# Altium footprint library IPC-7355 QFP_Shrink_Sq_50P_Side_L.PcbLib: 26 footprints (part 2 of 3)
Each footprint in its own frame and in the unit in brackets; x right, y up, seen from the top. Pads: shape width x height; smd on the part's side, far side on the other; paste and mask are expansions set on the pad; w line width, h text height; cw(c..) or ccw(c..) is an arc to the next point about the centre after c.
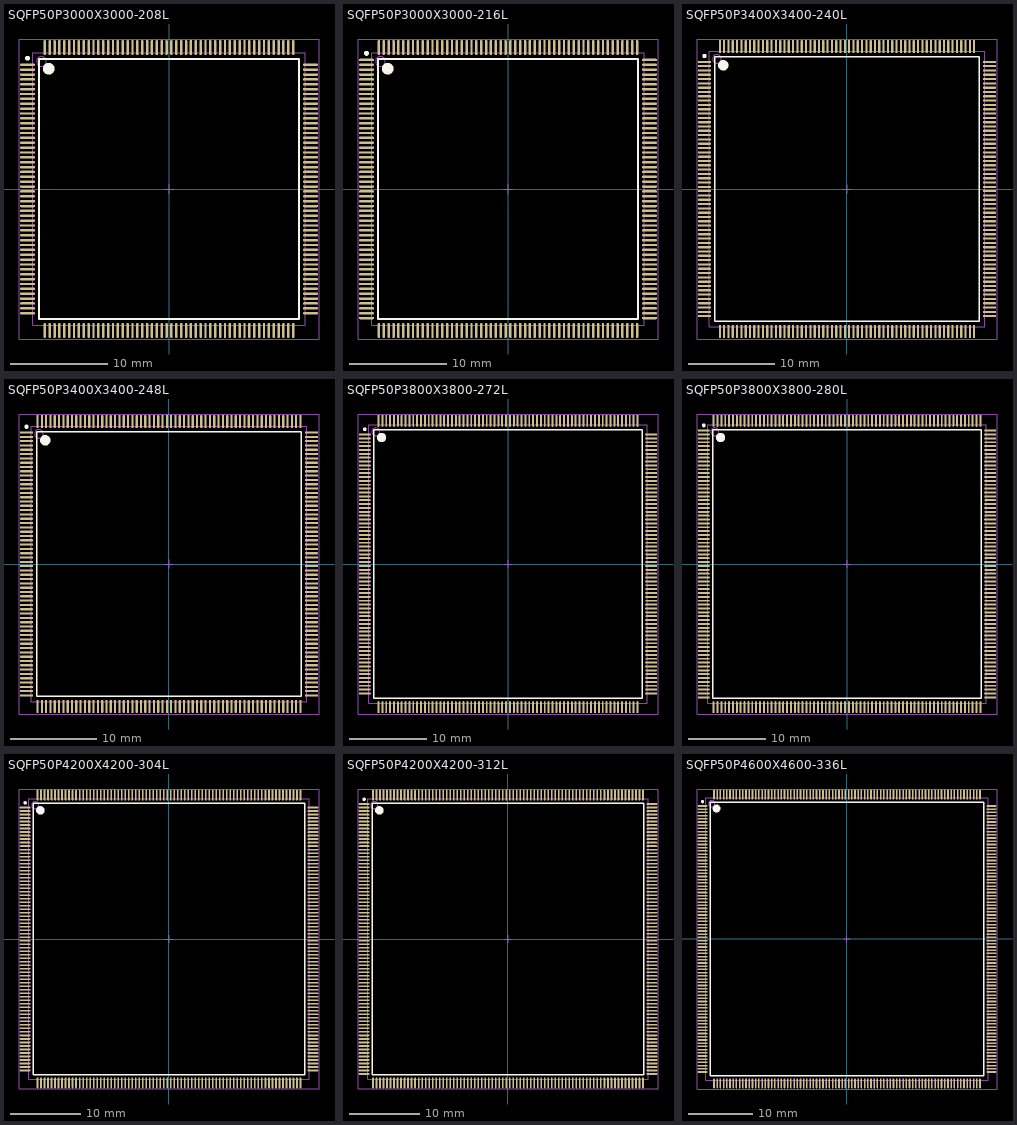
[diagram p1: the footprints below, top view; thin cyan lines are the x and y axes]

## SQFP50P3000X3000-208L [mm] "Shrink QFP, 208-Leads, Body 28x28mm, Pitch 0.5mm, IPC High Density"
height 3.75
pads (208):
  oval 1.55x0.25 smd: 1(-14.525,12.75) 2(-14.525,12.25) 3(-14.525,11.75) 4(-14.525,11.25) 5(-14.525,10.75) 6(-14.525,10.25) 7(-14.525,9.75) 8(-14.525,9.25) 9(-14.525,8.75) 10(-14.525,8.25) 11(-14.525,7.75) 12(-14.525,7.25) 13(-14.525,6.75) 14(-14.525,6.25) 15(-14.525,5.75) 16(-14.525,5.25) 17(-14.525,4.75) 18(-14.525,4.25) 19(-14.525,3.75) 20(-14.525,3.25) 21(-14.525,2.75) 22(-14.525,2.25) 23(-14.525,1.75) 24(-14.525,1.25) 25(-14.525,0.75) 26(-14.525,0.25) 27(-14.525,-0.25) 28(-14.525,-0.75) 29(-14.525,-1.25) 30(-14.525,-1.75) 31(-14.525,-2.25) 32(-14.525,-2.75) 33(-14.525,-3.25) 34(-14.525,-3.75) 35(-14.525,-4.25) 36(-14.525,-4.75) 37(-14.525,-5.25) 38(-14.525,-5.75) 39(-14.525,-6.25) 40(-14.525,-6.75) 41(-14.525,-7.25) 42(-14.525,-7.75) 43(-14.525,-8.25) 44(-14.525,-8.75) 45(-14.525,-9.25) 46(-14.525,-9.75) 47(-14.525,-10.25) 48(-14.525,-10.75) 49(-14.525,-11.25) 50(-14.525,-11.75) 51(-14.525,-12.25) 52(-14.525,-12.75) 105(14.525,-12.75) 106(14.525,-12.25) 107(14.525,-11.75) 108(14.525,-11.25) 109(14.525,-10.75) 110(14.525,-10.25) 111(14.525,-9.75) 112(14.525,-9.25) 113(14.525,-8.75) 114(14.525,-8.25) 115(14.525,-7.75) 116(14.525,-7.25) 117(14.525,-6.75) 118(14.525,-6.25) 119(14.525,-5.75) 120(14.525,-5.25) 121(14.525,-4.75) 122(14.525,-4.25) 123(14.525,-3.75) 124(14.525,-3.25) 125(14.525,-2.75) 126(14.525,-2.25) 127(14.525,-1.75) 128(14.525,-1.25) 129(14.525,-0.75) 130(14.525,-0.25) 131(14.525,0.25) 132(14.525,0.75) 133(14.525,1.25) 134(14.525,1.75) 135(14.525,2.25) 136(14.525,2.75) 137(14.525,3.25) 138(14.525,3.75) 139(14.525,4.25) 140(14.525,4.75) 141(14.525,5.25) 142(14.525,5.75) 143(14.525,6.25) 144(14.525,6.75) 145(14.525,7.25) 146(14.525,7.75) 147(14.525,8.25) 148(14.525,8.75) 149(14.525,9.25) 150(14.525,9.75) 151(14.525,10.25) 152(14.525,10.75) 153(14.525,11.25) 154(14.525,11.75) 155(14.525,12.25) 156(14.525,12.75)
  oval 0.25x1.55 smd: 53(-12.75,-14.525) 54(-12.25,-14.525) 55(-11.75,-14.525) 56(-11.25,-14.525) 57(-10.75,-14.525) 58(-10.25,-14.525) 59(-9.75,-14.525) 60(-9.25,-14.525) 61(-8.75,-14.525) 62(-8.25,-14.525) 63(-7.75,-14.525) 64(-7.25,-14.525) 65(-6.75,-14.525) 66(-6.25,-14.525) 67(-5.75,-14.525) 68(-5.25,-14.525) 69(-4.75,-14.525) 70(-4.25,-14.525) 71(-3.75,-14.525) 72(-3.25,-14.525) 73(-2.75,-14.525) 74(-2.25,-14.525) 75(-1.75,-14.525) 76(-1.25,-14.525) 77(-0.75,-14.525) 78(-0.25,-14.525) 79(0.25,-14.525) 80(0.75,-14.525) 81(1.25,-14.525) 82(1.75,-14.525) 83(2.25,-14.525) 84(2.75,-14.525) 85(3.25,-14.525) 86(3.75,-14.525) 87(4.25,-14.525) 88(4.75,-14.525) 89(5.25,-14.525) 90(5.75,-14.525) 91(6.25,-14.525) 92(6.75,-14.525) 93(7.25,-14.525) 94(7.75,-14.525) 95(8.25,-14.525) 96(8.75,-14.525) 97(9.25,-14.525) 98(9.75,-14.525) 99(10.25,-14.525) 100(10.75,-14.525) 101(11.25,-14.525) 102(11.75,-14.525) 103(12.25,-14.525) 104(12.75,-14.525) 157(12.75,14.525) 158(12.25,14.525) 159(11.75,14.525) 160(11.25,14.525) 161(10.75,14.525) 162(10.25,14.525) 163(9.75,14.525) 164(9.25,14.525) 165(8.75,14.525) 166(8.25,14.525) 167(7.75,14.525) 168(7.25,14.525) 169(6.75,14.525) 170(6.25,14.525) 171(5.75,14.525) 172(5.25,14.525) 173(4.75,14.525) 174(4.25,14.525) 175(3.75,14.525) 176(3.25,14.525) 177(2.75,14.525) 178(2.25,14.525) 179(1.75,14.525) 180(1.25,14.525) 181(0.75,14.525) 182(0.25,14.525) 183(-0.25,14.525) 184(-0.75,14.525) 185(-1.25,14.525) 186(-1.75,14.525) 187(-2.25,14.525) 188(-2.75,14.525) 189(-3.25,14.525) 190(-3.75,14.525) 191(-4.25,14.525) 192(-4.75,14.525) 193(-5.25,14.525) 194(-5.75,14.525) 195(-6.25,14.525) 196(-6.75,14.525) 197(-7.25,14.525) 198(-7.75,14.525) 199(-8.25,14.525) 200(-8.75,14.525) 201(-9.25,14.525) 202(-9.75,14.525) 203(-10.25,14.525) 204(-10.75,14.525) 205(-11.25,14.525) 206(-11.75,14.525) 207(-12.25,14.525) 208(-12.75,14.525)
Top Overlay:
  circle w0.6: c-12.35,12.35 r0.3
  circle w0.25: c-14.525,13.425 r0.125
  lines w0.2: -13.35,-13.35 13.35,-13.35 13.35,13.35 -13.35,13.35 -13.35,-13.35
Mechanical 13:
  circle w0.1: c-13.1,13.1 r0.5
  lines w0.1: -14,-14 14,-14 14,14 -14,14 -14,-14
Mechanical 15:
  lines w0.1: -0.5,0 0.5,0 ; 0,-0.5 0,0.5 ; -15.4,-15.4 15.4,-15.4 15.4,15.4 -15.4,15.4 -15.4,-15.4
3D body: height 3.75, standoff 0, extent -14,-14 14,14

## SQFP50P3000X3000-216L [mm] "Shrink QFP, 216-Leads, Body 28x28mm, Pitch 0.5mm, IPC High Density"
height 3.75
pads (216):
  oval 1.55x0.25 smd: 1(-14.525,13.25) 2(-14.525,12.75) 3(-14.525,12.25) 4(-14.525,11.75) 5(-14.525,11.25) 6(-14.525,10.75) 7(-14.525,10.25) 8(-14.525,9.75) 9(-14.525,9.25) 10(-14.525,8.75) 11(-14.525,8.25) 12(-14.525,7.75) 13(-14.525,7.25) 14(-14.525,6.75) 15(-14.525,6.25) 16(-14.525,5.75) 17(-14.525,5.25) 18(-14.525,4.75) 19(-14.525,4.25) 20(-14.525,3.75) 21(-14.525,3.25) 22(-14.525,2.75) 23(-14.525,2.25) 24(-14.525,1.75) 25(-14.525,1.25) 26(-14.525,0.75) 27(-14.525,0.25) 28(-14.525,-0.25) 29(-14.525,-0.75) 30(-14.525,-1.25) 31(-14.525,-1.75) 32(-14.525,-2.25) 33(-14.525,-2.75) 34(-14.525,-3.25) 35(-14.525,-3.75) 36(-14.525,-4.25) 37(-14.525,-4.75) 38(-14.525,-5.25) 39(-14.525,-5.75) 40(-14.525,-6.25) 41(-14.525,-6.75) 42(-14.525,-7.25) 43(-14.525,-7.75) 44(-14.525,-8.25) 45(-14.525,-8.75) 46(-14.525,-9.25) 47(-14.525,-9.75) 48(-14.525,-10.25) 49(-14.525,-10.75) 50(-14.525,-11.25) 51(-14.525,-11.75) 52(-14.525,-12.25) 53(-14.525,-12.75) 54(-14.525,-13.25) 109(14.525,-13.25) 110(14.525,-12.75) 111(14.525,-12.25) 112(14.525,-11.75) 113(14.525,-11.25) 114(14.525,-10.75) 115(14.525,-10.25) 116(14.525,-9.75) 117(14.525,-9.25) 118(14.525,-8.75) 119(14.525,-8.25) 120(14.525,-7.75) 121(14.525,-7.25) 122(14.525,-6.75) 123(14.525,-6.25) 124(14.525,-5.75) 125(14.525,-5.25) 126(14.525,-4.75) 127(14.525,-4.25) 128(14.525,-3.75) 129(14.525,-3.25) 130(14.525,-2.75) 131(14.525,-2.25) 132(14.525,-1.75) 133(14.525,-1.25) 134(14.525,-0.75) 135(14.525,-0.25) 136(14.525,0.25) 137(14.525,0.75) 138(14.525,1.25) 139(14.525,1.75) 140(14.525,2.25) 141(14.525,2.75) 142(14.525,3.25) 143(14.525,3.75) 144(14.525,4.25) 145(14.525,4.75) 146(14.525,5.25) 147(14.525,5.75) 148(14.525,6.25) 149(14.525,6.75) 150(14.525,7.25) 151(14.525,7.75) 152(14.525,8.25) 153(14.525,8.75) 154(14.525,9.25) 155(14.525,9.75) 156(14.525,10.25) 157(14.525,10.75) 158(14.525,11.25) 159(14.525,11.75) 160(14.525,12.25) 161(14.525,12.75) 162(14.525,13.25)
  oval 0.25x1.55 smd: 55(-13.25,-14.525) 56(-12.75,-14.525) 57(-12.25,-14.525) 58(-11.75,-14.525) 59(-11.25,-14.525) 60(-10.75,-14.525) 61(-10.25,-14.525) 62(-9.75,-14.525) 63(-9.25,-14.525) 64(-8.75,-14.525) 65(-8.25,-14.525) 66(-7.75,-14.525) 67(-7.25,-14.525) 68(-6.75,-14.525) 69(-6.25,-14.525) 70(-5.75,-14.525) 71(-5.25,-14.525) 72(-4.75,-14.525) 73(-4.25,-14.525) 74(-3.75,-14.525) 75(-3.25,-14.525) 76(-2.75,-14.525) 77(-2.25,-14.525) 78(-1.75,-14.525) 79(-1.25,-14.525) 80(-0.75,-14.525) 81(-0.25,-14.525) 82(0.25,-14.525) 83(0.75,-14.525) 84(1.25,-14.525) 85(1.75,-14.525) 86(2.25,-14.525) 87(2.75,-14.525) 88(3.25,-14.525) 89(3.75,-14.525) 90(4.25,-14.525) 91(4.75,-14.525) 92(5.25,-14.525) 93(5.75,-14.525) 94(6.25,-14.525) 95(6.75,-14.525) 96(7.25,-14.525) 97(7.75,-14.525) 98(8.25,-14.525) 99(8.75,-14.525) 100(9.25,-14.525) 101(9.75,-14.525) 102(10.25,-14.525) 103(10.75,-14.525) 104(11.25,-14.525) 105(11.75,-14.525) 106(12.25,-14.525) 107(12.75,-14.525) 108(13.25,-14.525) 163(13.25,14.525) 164(12.75,14.525) 165(12.25,14.525) 166(11.75,14.525) 167(11.25,14.525) 168(10.75,14.525) 169(10.25,14.525) 170(9.75,14.525) 171(9.25,14.525) 172(8.75,14.525) 173(8.25,14.525) 174(7.75,14.525) 175(7.25,14.525) 176(6.75,14.525) 177(6.25,14.525) 178(5.75,14.525) 179(5.25,14.525) 180(4.75,14.525) 181(4.25,14.525) 182(3.75,14.525) 183(3.25,14.525) 184(2.75,14.525) 185(2.25,14.525) 186(1.75,14.525) 187(1.25,14.525) 188(0.75,14.525) 189(0.25,14.525) 190(-0.25,14.525) 191(-0.75,14.525) 192(-1.25,14.525) 193(-1.75,14.525) 194(-2.25,14.525) 195(-2.75,14.525) 196(-3.25,14.525) 197(-3.75,14.525) 198(-4.25,14.525) 199(-4.75,14.525) 200(-5.25,14.525) 201(-5.75,14.525) 202(-6.25,14.525) 203(-6.75,14.525) 204(-7.25,14.525) 205(-7.75,14.525) 206(-8.25,14.525) 207(-8.75,14.525) 208(-9.25,14.525) 209(-9.75,14.525) 210(-10.25,14.525) 211(-10.75,14.525) 212(-11.25,14.525) 213(-11.75,14.525) 214(-12.25,14.525) 215(-12.75,14.525) 216(-13.25,14.525)
Top Overlay:
  circle w0.25: c-14.525,13.925 r0.125
  circle w0.6: c-12.35,12.35 r0.3
  lines w0.2: -13.35,-13.35 -13.35,13.35 13.35,13.35 13.35,-13.35 -13.35,-13.35
Mechanical 13:
  circle w0.1: c-13.1,13.1 r0.5
  lines w0.1: -14,-14 -14,14 14,14 14,-14 -14,-14
Mechanical 15:
  lines w0.1: -0.5,0 0.5,0 ; 0,-0.5 0,0.5 ; -15.4,-15.4 -15.4,15.4 15.4,15.4 15.4,-15.4 -15.4,-15.4
3D body: height 3.75, standoff 0, extent -14,-14 14,14

## SQFP50P3400X3400-240L [mm] "Shrink QFP, 240-Leads, Body 32x32mm, Pitch 0.5mm, IPC High Density"
height 4.2
pads (240):
  oval 1.55x0.25 smd: 1(-16.525,14.75) 2(-16.525,14.25) 3(-16.525,13.75) 4(-16.525,13.25) 5(-16.525,12.75) 6(-16.525,12.25) 7(-16.525,11.75) 8(-16.525,11.25) 9(-16.525,10.75) 10(-16.525,10.25) 11(-16.525,9.75) 12(-16.525,9.25) 13(-16.525,8.75) 14(-16.525,8.25) 15(-16.525,7.75) 16(-16.525,7.25) 17(-16.525,6.75) 18(-16.525,6.25) 19(-16.525,5.75) 20(-16.525,5.25) 21(-16.525,4.75) 22(-16.525,4.25) 23(-16.525,3.75) 24(-16.525,3.25) 25(-16.525,2.75) 26(-16.525,2.25) 27(-16.525,1.75) 28(-16.525,1.25) 29(-16.525,0.75) 30(-16.525,0.25) 31(-16.525,-0.25) 32(-16.525,-0.75) 33(-16.525,-1.25) 34(-16.525,-1.75) 35(-16.525,-2.25) 36(-16.525,-2.75) 37(-16.525,-3.25) 38(-16.525,-3.75) 39(-16.525,-4.25) 40(-16.525,-4.75) 41(-16.525,-5.25) 42(-16.525,-5.75) 43(-16.525,-6.25) 44(-16.525,-6.75) 45(-16.525,-7.25) 46(-16.525,-7.75) 47(-16.525,-8.25) 48(-16.525,-8.75) 49(-16.525,-9.25) 50(-16.525,-9.75) 51(-16.525,-10.25) 52(-16.525,-10.75) 53(-16.525,-11.25) 54(-16.525,-11.75) 55(-16.525,-12.25) 56(-16.525,-12.75) 57(-16.525,-13.25) 58(-16.525,-13.75) 59(-16.525,-14.25) 60(-16.525,-14.75) 121(16.525,-14.75) 122(16.525,-14.25) 123(16.525,-13.75) 124(16.525,-13.25) 125(16.525,-12.75) 126(16.525,-12.25) 127(16.525,-11.75) 128(16.525,-11.25) 129(16.525,-10.75) 130(16.525,-10.25) 131(16.525,-9.75) 132(16.525,-9.25) 133(16.525,-8.75) 134(16.525,-8.25) 135(16.525,-7.75) 136(16.525,-7.25) 137(16.525,-6.75) 138(16.525,-6.25) 139(16.525,-5.75) 140(16.525,-5.25) 141(16.525,-4.75) 142(16.525,-4.25) 143(16.525,-3.75) 144(16.525,-3.25) 145(16.525,-2.75) 146(16.525,-2.25) 147(16.525,-1.75) 148(16.525,-1.25) 149(16.525,-0.75) 150(16.525,-0.25) 151(16.525,0.25) 152(16.525,0.75) 153(16.525,1.25) 154(16.525,1.75) 155(16.525,2.25) 156(16.525,2.75) 157(16.525,3.25) 158(16.525,3.75) 159(16.525,4.25) 160(16.525,4.75) 161(16.525,5.25) 162(16.525,5.75) 163(16.525,6.25) 164(16.525,6.75) 165(16.525,7.25) 166(16.525,7.75) 167(16.525,8.25) 168(16.525,8.75) 169(16.525,9.25) 170(16.525,9.75) 171(16.525,10.25) 172(16.525,10.75) 173(16.525,11.25) 174(16.525,11.75) 175(16.525,12.25) 176(16.525,12.75) 177(16.525,13.25) 178(16.525,13.75) 179(16.525,14.25) 180(16.525,14.75)
  oval 0.25x1.55 smd: 61(-14.75,-16.525) 62(-14.25,-16.525) 63(-13.75,-16.525) 64(-13.25,-16.525) 65(-12.75,-16.525) 66(-12.25,-16.525) 67(-11.75,-16.525) 68(-11.25,-16.525) 69(-10.75,-16.525) 70(-10.25,-16.525) 71(-9.75,-16.525) 72(-9.25,-16.525) 73(-8.75,-16.525) 74(-8.25,-16.525) 75(-7.75,-16.525) 76(-7.25,-16.525) 77(-6.75,-16.525) 78(-6.25,-16.525) 79(-5.75,-16.525) 80(-5.25,-16.525) 81(-4.75,-16.525) 82(-4.25,-16.525) 83(-3.75,-16.525) 84(-3.25,-16.525) 85(-2.75,-16.525) 86(-2.25,-16.525) 87(-1.75,-16.525) 88(-1.25,-16.525) 89(-0.75,-16.525) 90(-0.25,-16.525) 91(0.25,-16.525) 92(0.75,-16.525) 93(1.25,-16.525) 94(1.75,-16.525) 95(2.25,-16.525) 96(2.75,-16.525) 97(3.25,-16.525) 98(3.75,-16.525) 99(4.25,-16.525) 100(4.75,-16.525) 101(5.25,-16.525) 102(5.75,-16.525) 103(6.25,-16.525) 104(6.75,-16.525) 105(7.25,-16.525) 106(7.75,-16.525) 107(8.25,-16.525) 108(8.75,-16.525) 109(9.25,-16.525) 110(9.75,-16.525) 111(10.25,-16.525) 112(10.75,-16.525) 113(11.25,-16.525) 114(11.75,-16.525) 115(12.25,-16.525) 116(12.75,-16.525) 117(13.25,-16.525) 118(13.75,-16.525) 119(14.25,-16.525) 120(14.75,-16.525) 181(14.75,16.525) 182(14.25,16.525) 183(13.75,16.525) 184(13.25,16.525) 185(12.75,16.525) 186(12.25,16.525) 187(11.75,16.525) 188(11.25,16.525) 189(10.75,16.525) 190(10.25,16.525) 191(9.75,16.525) 192(9.25,16.525) 193(8.75,16.525) 194(8.25,16.525) 195(7.75,16.525) 196(7.25,16.525) 197(6.75,16.525) 198(6.25,16.525) 199(5.75,16.525) 200(5.25,16.525) 201(4.75,16.525) 202(4.25,16.525) 203(3.75,16.525) 204(3.25,16.525) 205(2.75,16.525) 206(2.25,16.525) 207(1.75,16.525) 208(1.25,16.525) 209(0.75,16.525) 210(0.25,16.525) 211(-0.25,16.525) 212(-0.75,16.525) 213(-1.25,16.525) 214(-1.75,16.525) 215(-2.25,16.525) 216(-2.75,16.525) 217(-3.25,16.525) 218(-3.75,16.525) 219(-4.25,16.525) 220(-4.75,16.525) 221(-5.25,16.525) 222(-5.75,16.525) 223(-6.25,16.525) 224(-6.75,16.525) 225(-7.25,16.525) 226(-7.75,16.525) 227(-8.25,16.525) 228(-8.75,16.525) 229(-9.25,16.525) 230(-9.75,16.525) 231(-10.25,16.525) 232(-10.75,16.525) 233(-11.25,16.525) 234(-11.75,16.525) 235(-12.25,16.525) 236(-12.75,16.525) 237(-13.25,16.525) 238(-13.75,16.525) 239(-14.25,16.525) 240(-14.75,16.525)
Top Overlay:
  circle w0.6: c-14.35,14.35 r0.3
  circle w0.25: c-16.525,15.425 r0.125
  lines w0.2: -15.35,-15.35 15.35,-15.35 15.35,15.35 -15.35,15.35 -15.35,-15.35
Mechanical 13:
  circle w0.1: c-15.1,15.1 r0.5
  lines w0.1: -16,-16 16,-16 16,16 -16,16 -16,-16
Mechanical 15:
  lines w0.1: -0.5,0 0.5,0 ; 0,-0.5 0,0.5 ; -17.4,-17.4 17.4,-17.4 17.4,17.4 -17.4,17.4 -17.4,-17.4
3D body: height 4.2, standoff 0, extent -16,-16 16,16

## SQFP50P3400X3400-248L [mm] "Shrink QFP, 248-Leads, Body 32x32mm, Pitch 0.5mm, IPC High Density"
height 4.2
pads (248):
  oval 1.55x0.25 smd: 1(-16.525,15.25) 2(-16.525,14.75) 3(-16.525,14.25) 4(-16.525,13.75) 5(-16.525,13.25) 6(-16.525,12.75) 7(-16.525,12.25) 8(-16.525,11.75) 9(-16.525,11.25) 10(-16.525,10.75) 11(-16.525,10.25) 12(-16.525,9.75) 13(-16.525,9.25) 14(-16.525,8.75) 15(-16.525,8.25) 16(-16.525,7.75) 17(-16.525,7.25) 18(-16.525,6.75) 19(-16.525,6.25) 20(-16.525,5.75) 21(-16.525,5.25) 22(-16.525,4.75) 23(-16.525,4.25) 24(-16.525,3.75) 25(-16.525,3.25) 26(-16.525,2.75) 27(-16.525,2.25) 28(-16.525,1.75) 29(-16.525,1.25) 30(-16.525,0.75) 31(-16.525,0.25) 32(-16.525,-0.25) 33(-16.525,-0.75) 34(-16.525,-1.25) 35(-16.525,-1.75) 36(-16.525,-2.25) 37(-16.525,-2.75) 38(-16.525,-3.25) 39(-16.525,-3.75) 40(-16.525,-4.25) 41(-16.525,-4.75) 42(-16.525,-5.25) 43(-16.525,-5.75) 44(-16.525,-6.25) 45(-16.525,-6.75) 46(-16.525,-7.25) 47(-16.525,-7.75) 48(-16.525,-8.25) 49(-16.525,-8.75) 50(-16.525,-9.25) 51(-16.525,-9.75) 52(-16.525,-10.25) 53(-16.525,-10.75) 54(-16.525,-11.25) 55(-16.525,-11.75) 56(-16.525,-12.25) 57(-16.525,-12.75) 58(-16.525,-13.25) 59(-16.525,-13.75) 60(-16.525,-14.25) 61(-16.525,-14.75) 62(-16.525,-15.25) 125(16.525,-15.25) 126(16.525,-14.75) 127(16.525,-14.25) 128(16.525,-13.75) 129(16.525,-13.25) 130(16.525,-12.75) 131(16.525,-12.25) 132(16.525,-11.75) 133(16.525,-11.25) 134(16.525,-10.75) 135(16.525,-10.25) 136(16.525,-9.75) 137(16.525,-9.25) 138(16.525,-8.75) 139(16.525,-8.25) 140(16.525,-7.75) 141(16.525,-7.25) 142(16.525,-6.75) 143(16.525,-6.25) 144(16.525,-5.75) 145(16.525,-5.25) 146(16.525,-4.75) 147(16.525,-4.25) 148(16.525,-3.75) 149(16.525,-3.25) 150(16.525,-2.75) 151(16.525,-2.25) 152(16.525,-1.75) 153(16.525,-1.25) 154(16.525,-0.75) 155(16.525,-0.25) 156(16.525,0.25) 157(16.525,0.75) 158(16.525,1.25) 159(16.525,1.75) 160(16.525,2.25) 161(16.525,2.75) 162(16.525,3.25) 163(16.525,3.75) 164(16.525,4.25) 165(16.525,4.75) 166(16.525,5.25) 167(16.525,5.75) 168(16.525,6.25) 169(16.525,6.75) 170(16.525,7.25) 171(16.525,7.75) 172(16.525,8.25) 173(16.525,8.75) 174(16.525,9.25) 175(16.525,9.75) 176(16.525,10.25) 177(16.525,10.75) 178(16.525,11.25) 179(16.525,11.75) 180(16.525,12.25) 181(16.525,12.75) 182(16.525,13.25) 183(16.525,13.75) 184(16.525,14.25) 185(16.525,14.75) 186(16.525,15.25)
  oval 0.25x1.55 smd: 63(-15.25,-16.525) 64(-14.75,-16.525) 65(-14.25,-16.525) 66(-13.75,-16.525) 67(-13.25,-16.525) 68(-12.75,-16.525) 69(-12.25,-16.525) 70(-11.75,-16.525) 71(-11.25,-16.525) 72(-10.75,-16.525) 73(-10.25,-16.525) 74(-9.75,-16.525) 75(-9.25,-16.525) 76(-8.75,-16.525) 77(-8.25,-16.525) 78(-7.75,-16.525) 79(-7.25,-16.525) 80(-6.75,-16.525) 81(-6.25,-16.525) 82(-5.75,-16.525) 83(-5.25,-16.525) 84(-4.75,-16.525) 85(-4.25,-16.525) 86(-3.75,-16.525) 87(-3.25,-16.525) 88(-2.75,-16.525) 89(-2.25,-16.525) 90(-1.75,-16.525) 91(-1.25,-16.525) 92(-0.75,-16.525) 93(-0.25,-16.525) 94(0.25,-16.525) 95(0.75,-16.525) 96(1.25,-16.525) 97(1.75,-16.525) 98(2.25,-16.525) 99(2.75,-16.525) 100(3.25,-16.525) 101(3.75,-16.525) 102(4.25,-16.525) 103(4.75,-16.525) 104(5.25,-16.525) 105(5.75,-16.525) 106(6.25,-16.525) 107(6.75,-16.525) 108(7.25,-16.525) 109(7.75,-16.525) 110(8.25,-16.525) 111(8.75,-16.525) 112(9.25,-16.525) 113(9.75,-16.525) 114(10.25,-16.525) 115(10.75,-16.525) 116(11.25,-16.525) 117(11.75,-16.525) 118(12.25,-16.525) 119(12.75,-16.525) 120(13.25,-16.525) 121(13.75,-16.525) 122(14.25,-16.525) 123(14.75,-16.525) 124(15.25,-16.525) 187(15.25,16.525) 188(14.75,16.525) 189(14.25,16.525) 190(13.75,16.525) 191(13.25,16.525) 192(12.75,16.525) 193(12.25,16.525) 194(11.75,16.525) 195(11.25,16.525) 196(10.75,16.525) 197(10.25,16.525) 198(9.75,16.525) 199(9.25,16.525) 200(8.75,16.525) 201(8.25,16.525) 202(7.75,16.525) 203(7.25,16.525) 204(6.75,16.525) 205(6.25,16.525) 206(5.75,16.525) 207(5.25,16.525) 208(4.75,16.525) 209(4.25,16.525) 210(3.75,16.525) 211(3.25,16.525) 212(2.75,16.525) 213(2.25,16.525) 214(1.75,16.525) 215(1.25,16.525) 216(0.75,16.525) 217(0.25,16.525) 218(-0.25,16.525) 219(-0.75,16.525) 220(-1.25,16.525) 221(-1.75,16.525) 222(-2.25,16.525) 223(-2.75,16.525) 224(-3.25,16.525) 225(-3.75,16.525) 226(-4.25,16.525) 227(-4.75,16.525) 228(-5.25,16.525) 229(-5.75,16.525) 230(-6.25,16.525) 231(-6.75,16.525) 232(-7.25,16.525) 233(-7.75,16.525) 234(-8.25,16.525) 235(-8.75,16.525) 236(-9.25,16.525) 237(-9.75,16.525) 238(-10.25,16.525) 239(-10.75,16.525) 240(-11.25,16.525) 241(-11.75,16.525) 242(-12.25,16.525) 243(-12.75,16.525) 244(-13.25,16.525) 245(-13.75,16.525) 246(-14.25,16.525) 247(-14.75,16.525) 248(-15.25,16.525)
Top Overlay:
  circle w0.25: c-16.525,15.925 r0.125
  circle w0.6: c-14.35,14.35 r0.3
  lines w0.2: -15.35,-15.35 -15.35,15.35 15.35,15.35 15.35,-15.35 -15.35,-15.35
Mechanical 13:
  circle w0.1: c-15.1,15.1 r0.5
  lines w0.1: -16,-16 -16,16 16,16 16,-16 -16,-16
Mechanical 15:
  lines w0.1: -0.5,0 0.5,0 ; 0,-0.5 0,0.5 ; -17.4,-17.4 -17.4,17.4 17.4,17.4 17.4,-17.4 -17.4,-17.4
3D body: height 4.2, standoff 0, extent -16,-16 16,16

## SQFP50P3800X3800-272L [mm] "Shrink QFP, 272-Leads, Body 36x36mm, Pitch 0.5mm, IPC High Density"
height 4.2
pads (272):
  oval 1.55x0.25 smd: 1(-18.525,16.75) 2(-18.525,16.25) 3(-18.525,15.75) 4(-18.525,15.25) 5(-18.525,14.75) 6(-18.525,14.25) 7(-18.525,13.75) 8(-18.525,13.25) 9(-18.525,12.75) 10(-18.525,12.25) 11(-18.525,11.75) 12(-18.525,11.25) 13(-18.525,10.75) 14(-18.525,10.25) 15(-18.525,9.75) 16(-18.525,9.25) 17(-18.525,8.75) 18(-18.525,8.25) 19(-18.525,7.75) 20(-18.525,7.25) 21(-18.525,6.75) 22(-18.525,6.25) 23(-18.525,5.75) 24(-18.525,5.25) 25(-18.525,4.75) 26(-18.525,4.25) 27(-18.525,3.75) 28(-18.525,3.25) 29(-18.525,2.75) 30(-18.525,2.25) 31(-18.525,1.75) 32(-18.525,1.25) 33(-18.525,0.75) 34(-18.525,0.25) 35(-18.525,-0.25) 36(-18.525,-0.75) 37(-18.525,-1.25) 38(-18.525,-1.75) 39(-18.525,-2.25) 40(-18.525,-2.75) 41(-18.525,-3.25) 42(-18.525,-3.75) 43(-18.525,-4.25) 44(-18.525,-4.75) 45(-18.525,-5.25) 46(-18.525,-5.75) 47(-18.525,-6.25) 48(-18.525,-6.75) 49(-18.525,-7.25) 50(-18.525,-7.75) 51(-18.525,-8.25) 52(-18.525,-8.75) 53(-18.525,-9.25) 54(-18.525,-9.75) 55(-18.525,-10.25) 56(-18.525,-10.75) 57(-18.525,-11.25) 58(-18.525,-11.75) 59(-18.525,-12.25) 60(-18.525,-12.75) 61(-18.525,-13.25) 62(-18.525,-13.75) 63(-18.525,-14.25) 64(-18.525,-14.75) 65(-18.525,-15.25) 66(-18.525,-15.75) 67(-18.525,-16.25) 68(-18.525,-16.75) 137(18.525,-16.75) 138(18.525,-16.25) 139(18.525,-15.75) 140(18.525,-15.25) 141(18.525,-14.75) 142(18.525,-14.25) 143(18.525,-13.75) 144(18.525,-13.25) 145(18.525,-12.75) 146(18.525,-12.25) 147(18.525,-11.75) 148(18.525,-11.25) 149(18.525,-10.75) 150(18.525,-10.25) 151(18.525,-9.75) 152(18.525,-9.25) 153(18.525,-8.75) 154(18.525,-8.25) 155(18.525,-7.75) 156(18.525,-7.25) 157(18.525,-6.75) 158(18.525,-6.25) 159(18.525,-5.75) 160(18.525,-5.25) 161(18.525,-4.75) 162(18.525,-4.25) 163(18.525,-3.75) 164(18.525,-3.25) 165(18.525,-2.75) 166(18.525,-2.25) 167(18.525,-1.75) 168(18.525,-1.25) 169(18.525,-0.75) 170(18.525,-0.25) 171(18.525,0.25) 172(18.525,0.75) 173(18.525,1.25) 174(18.525,1.75) 175(18.525,2.25) 176(18.525,2.75) 177(18.525,3.25) 178(18.525,3.75) 179(18.525,4.25) 180(18.525,4.75) 181(18.525,5.25) 182(18.525,5.75) 183(18.525,6.25) 184(18.525,6.75) 185(18.525,7.25) 186(18.525,7.75) 187(18.525,8.25) 188(18.525,8.75) 189(18.525,9.25) 190(18.525,9.75) 191(18.525,10.25) 192(18.525,10.75) 193(18.525,11.25) 194(18.525,11.75) 195(18.525,12.25) 196(18.525,12.75) 197(18.525,13.25) 198(18.525,13.75) 199(18.525,14.25) 200(18.525,14.75) 201(18.525,15.25) 202(18.525,15.75) 203(18.525,16.25) 204(18.525,16.75)
  oval 0.25x1.55 smd: 69(-16.75,-18.525) 70(-16.25,-18.525) 71(-15.75,-18.525) 72(-15.25,-18.525) 73(-14.75,-18.525) 74(-14.25,-18.525) 75(-13.75,-18.525) 76(-13.25,-18.525) 77(-12.75,-18.525) 78(-12.25,-18.525) 79(-11.75,-18.525) 80(-11.25,-18.525) 81(-10.75,-18.525) 82(-10.25,-18.525) 83(-9.75,-18.525) 84(-9.25,-18.525) 85(-8.75,-18.525) 86(-8.25,-18.525) 87(-7.75,-18.525) 88(-7.25,-18.525) 89(-6.75,-18.525) 90(-6.25,-18.525) 91(-5.75,-18.525) 92(-5.25,-18.525) 93(-4.75,-18.525) 94(-4.25,-18.525) 95(-3.75,-18.525) 96(-3.25,-18.525) 97(-2.75,-18.525) 98(-2.25,-18.525) 99(-1.75,-18.525) 100(-1.25,-18.525) 101(-0.75,-18.525) 102(-0.25,-18.525) 103(0.25,-18.525) 104(0.75,-18.525) 105(1.25,-18.525) 106(1.75,-18.525) 107(2.25,-18.525) 108(2.75,-18.525) 109(3.25,-18.525) 110(3.75,-18.525) 111(4.25,-18.525) 112(4.75,-18.525) 113(5.25,-18.525) 114(5.75,-18.525) 115(6.25,-18.525) 116(6.75,-18.525) 117(7.25,-18.525) 118(7.75,-18.525) 119(8.25,-18.525) 120(8.75,-18.525) 121(9.25,-18.525) 122(9.75,-18.525) 123(10.25,-18.525) 124(10.75,-18.525) 125(11.25,-18.525) 126(11.75,-18.525) 127(12.25,-18.525) 128(12.75,-18.525) 129(13.25,-18.525) 130(13.75,-18.525) 131(14.25,-18.525) 132(14.75,-18.525) 133(15.25,-18.525) 134(15.75,-18.525) 135(16.25,-18.525) 136(16.75,-18.525) 205(16.75,18.525) 206(16.25,18.525) 207(15.75,18.525) 208(15.25,18.525) 209(14.75,18.525) 210(14.25,18.525) 211(13.75,18.525) 212(13.25,18.525) 213(12.75,18.525) 214(12.25,18.525) 215(11.75,18.525) 216(11.25,18.525) 217(10.75,18.525) 218(10.25,18.525) 219(9.75,18.525) 220(9.25,18.525) 221(8.75,18.525) 222(8.25,18.525) 223(7.75,18.525) 224(7.25,18.525) 225(6.75,18.525) 226(6.25,18.525) 227(5.75,18.525) 228(5.25,18.525) 229(4.75,18.525) 230(4.25,18.525) 231(3.75,18.525) 232(3.25,18.525) 233(2.75,18.525) 234(2.25,18.525) 235(1.75,18.525) 236(1.25,18.525) 237(0.75,18.525) 238(0.25,18.525) 239(-0.25,18.525) 240(-0.75,18.525) 241(-1.25,18.525) 242(-1.75,18.525) 243(-2.25,18.525) 244(-2.75,18.525) 245(-3.25,18.525) 246(-3.75,18.525) 247(-4.25,18.525) 248(-4.75,18.525) 249(-5.25,18.525) 250(-5.75,18.525) 251(-6.25,18.525) 252(-6.75,18.525) 253(-7.25,18.525) 254(-7.75,18.525) 255(-8.25,18.525) 256(-8.75,18.525) 257(-9.25,18.525) 258(-9.75,18.525) 259(-10.25,18.525) 260(-10.75,18.525) 261(-11.25,18.525) 262(-11.75,18.525) 263(-12.25,18.525) 264(-12.75,18.525) 265(-13.25,18.525) 266(-13.75,18.525) 267(-14.25,18.525) 268(-14.75,18.525) 269(-15.25,18.525) 270(-15.75,18.525) 271(-16.25,18.525) 272(-16.75,18.525)
Top Overlay:
  circle w0.6: c-16.35,16.35 r0.3
  circle w0.25: c-18.525,17.425 r0.125
  lines w0.2: -17.35,-17.35 17.35,-17.35 17.35,17.35 -17.35,17.35 -17.35,-17.35
Mechanical 13:
  circle w0.1: c-17.1,17.1 r0.5
  lines w0.1: -18,-18 18,-18 18,18 -18,18 -18,-18
Mechanical 15:
  lines w0.1: -0.5,0 0.5,0 ; 0,-0.5 0,0.5 ; -19.4,-19.4 19.4,-19.4 19.4,19.4 -19.4,19.4 -19.4,-19.4
3D body: height 4.2, standoff 0, extent -18,-18 18,18

## SQFP50P3800X3800-280L [mm] "Shrink QFP, 280-Leads, Body 36x36mm, Pitch 0.5mm, IPC High Density"
height 4.2
pads (280):
  oval 1.55x0.25 smd: 1(-18.525,17.25) 2(-18.525,16.75) 3(-18.525,16.25) 4(-18.525,15.75) 5(-18.525,15.25) 6(-18.525,14.75) 7(-18.525,14.25) 8(-18.525,13.75) 9(-18.525,13.25) 10(-18.525,12.75) 11(-18.525,12.25) 12(-18.525,11.75) 13(-18.525,11.25) 14(-18.525,10.75) 15(-18.525,10.25) 16(-18.525,9.75) 17(-18.525,9.25) 18(-18.525,8.75) 19(-18.525,8.25) 20(-18.525,7.75) 21(-18.525,7.25) 22(-18.525,6.75) 23(-18.525,6.25) 24(-18.525,5.75) 25(-18.525,5.25) 26(-18.525,4.75) 27(-18.525,4.25) 28(-18.525,3.75) 29(-18.525,3.25) 30(-18.525,2.75) 31(-18.525,2.25) 32(-18.525,1.75) 33(-18.525,1.25) 34(-18.525,0.75) 35(-18.525,0.25) 36(-18.525,-0.25) 37(-18.525,-0.75) 38(-18.525,-1.25) 39(-18.525,-1.75) 40(-18.525,-2.25) 41(-18.525,-2.75) 42(-18.525,-3.25) 43(-18.525,-3.75) 44(-18.525,-4.25) 45(-18.525,-4.75) 46(-18.525,-5.25) 47(-18.525,-5.75) 48(-18.525,-6.25) 49(-18.525,-6.75) 50(-18.525,-7.25) 51(-18.525,-7.75) 52(-18.525,-8.25) 53(-18.525,-8.75) 54(-18.525,-9.25) 55(-18.525,-9.75) 56(-18.525,-10.25) 57(-18.525,-10.75) 58(-18.525,-11.25) 59(-18.525,-11.75) 60(-18.525,-12.25) 61(-18.525,-12.75) 62(-18.525,-13.25) 63(-18.525,-13.75) 64(-18.525,-14.25) 65(-18.525,-14.75) 66(-18.525,-15.25) 67(-18.525,-15.75) 68(-18.525,-16.25) 69(-18.525,-16.75) 70(-18.525,-17.25) 141(18.525,-17.25) 142(18.525,-16.75) 143(18.525,-16.25) 144(18.525,-15.75) 145(18.525,-15.25) 146(18.525,-14.75) 147(18.525,-14.25) 148(18.525,-13.75) 149(18.525,-13.25) 150(18.525,-12.75) 151(18.525,-12.25) 152(18.525,-11.75) 153(18.525,-11.25) 154(18.525,-10.75) 155(18.525,-10.25) 156(18.525,-9.75) 157(18.525,-9.25) 158(18.525,-8.75) 159(18.525,-8.25) 160(18.525,-7.75) 161(18.525,-7.25) 162(18.525,-6.75) 163(18.525,-6.25) 164(18.525,-5.75) 165(18.525,-5.25) 166(18.525,-4.75) 167(18.525,-4.25) 168(18.525,-3.75) 169(18.525,-3.25) 170(18.525,-2.75) 171(18.525,-2.25) 172(18.525,-1.75) 173(18.525,-1.25) 174(18.525,-0.75) 175(18.525,-0.25) 176(18.525,0.25) 177(18.525,0.75) 178(18.525,1.25) 179(18.525,1.75) 180(18.525,2.25) 181(18.525,2.75) 182(18.525,3.25) 183(18.525,3.75) 184(18.525,4.25) 185(18.525,4.75) 186(18.525,5.25) 187(18.525,5.75) 188(18.525,6.25) 189(18.525,6.75) 190(18.525,7.25) 191(18.525,7.75) 192(18.525,8.25) 193(18.525,8.75) 194(18.525,9.25) 195(18.525,9.75) 196(18.525,10.25) 197(18.525,10.75) 198(18.525,11.25) 199(18.525,11.75) 200(18.525,12.25) 201(18.525,12.75) 202(18.525,13.25) 203(18.525,13.75) 204(18.525,14.25) 205(18.525,14.75) 206(18.525,15.25) 207(18.525,15.75) 208(18.525,16.25) 209(18.525,16.75) 210(18.525,17.25)
  oval 0.25x1.55 smd: 71(-17.25,-18.525) 72(-16.75,-18.525) 73(-16.25,-18.525) 74(-15.75,-18.525) 75(-15.25,-18.525) 76(-14.75,-18.525) 77(-14.25,-18.525) 78(-13.75,-18.525) 79(-13.25,-18.525) 80(-12.75,-18.525) 81(-12.25,-18.525) 82(-11.75,-18.525) 83(-11.25,-18.525) 84(-10.75,-18.525) 85(-10.25,-18.525) 86(-9.75,-18.525) 87(-9.25,-18.525) 88(-8.75,-18.525) 89(-8.25,-18.525) 90(-7.75,-18.525) 91(-7.25,-18.525) 92(-6.75,-18.525) 93(-6.25,-18.525) 94(-5.75,-18.525) 95(-5.25,-18.525) 96(-4.75,-18.525) 97(-4.25,-18.525) 98(-3.75,-18.525) 99(-3.25,-18.525) 100(-2.75,-18.525) 101(-2.25,-18.525) 102(-1.75,-18.525) 103(-1.25,-18.525) 104(-0.75,-18.525) 105(-0.25,-18.525) 106(0.25,-18.525) 107(0.75,-18.525) 108(1.25,-18.525) 109(1.75,-18.525) 110(2.25,-18.525) 111(2.75,-18.525) 112(3.25,-18.525) 113(3.75,-18.525) 114(4.25,-18.525) 115(4.75,-18.525) 116(5.25,-18.525) 117(5.75,-18.525) 118(6.25,-18.525) 119(6.75,-18.525) 120(7.25,-18.525) 121(7.75,-18.525) 122(8.25,-18.525) 123(8.75,-18.525) 124(9.25,-18.525) 125(9.75,-18.525) 126(10.25,-18.525) 127(10.75,-18.525) 128(11.25,-18.525) 129(11.75,-18.525) 130(12.25,-18.525) 131(12.75,-18.525) 132(13.25,-18.525) 133(13.75,-18.525) 134(14.25,-18.525) 135(14.75,-18.525) 136(15.25,-18.525) 137(15.75,-18.525) 138(16.25,-18.525) 139(16.75,-18.525) 140(17.25,-18.525) 211(17.25,18.525) 212(16.75,18.525) 213(16.25,18.525) 214(15.75,18.525) 215(15.25,18.525) 216(14.75,18.525) 217(14.25,18.525) 218(13.75,18.525) 219(13.25,18.525) 220(12.75,18.525) 221(12.25,18.525) 222(11.75,18.525) 223(11.25,18.525) 224(10.75,18.525) 225(10.25,18.525) 226(9.75,18.525) 227(9.25,18.525) 228(8.75,18.525) 229(8.25,18.525) 230(7.75,18.525) 231(7.25,18.525) 232(6.75,18.525) 233(6.25,18.525) 234(5.75,18.525) 235(5.25,18.525) 236(4.75,18.525) 237(4.25,18.525) 238(3.75,18.525) 239(3.25,18.525) 240(2.75,18.525) 241(2.25,18.525) 242(1.75,18.525) 243(1.25,18.525) 244(0.75,18.525) 245(0.25,18.525) 246(-0.25,18.525) 247(-0.75,18.525) 248(-1.25,18.525) 249(-1.75,18.525) 250(-2.25,18.525) 251(-2.75,18.525) 252(-3.25,18.525) 253(-3.75,18.525) 254(-4.25,18.525) 255(-4.75,18.525) 256(-5.25,18.525) 257(-5.75,18.525) 258(-6.25,18.525) 259(-6.75,18.525) 260(-7.25,18.525) 261(-7.75,18.525) 262(-8.25,18.525) 263(-8.75,18.525) 264(-9.25,18.525) 265(-9.75,18.525) 266(-10.25,18.525) 267(-10.75,18.525) 268(-11.25,18.525) 269(-11.75,18.525) 270(-12.25,18.525) 271(-12.75,18.525) 272(-13.25,18.525) 273(-13.75,18.525) 274(-14.25,18.525) 275(-14.75,18.525) 276(-15.25,18.525) 277(-15.75,18.525) 278(-16.25,18.525) 279(-16.75,18.525) 280(-17.25,18.525)
Top Overlay:
  circle w0.6: c-16.35,16.35 r0.3
  circle w0.25: c-18.525,17.925 r0.125
  lines w0.2: -17.35,-17.35 17.35,-17.35 17.35,17.35 -17.35,17.35 -17.35,-17.35
Mechanical 13:
  circle w0.1: c-17.1,17.1 r0.5
  lines w0.1: -18,-18 18,-18 18,18 -18,18 -18,-18
Mechanical 15:
  lines w0.1: -0.5,0 0.5,0 ; 0,-0.5 0,0.5 ; -19.4,-19.4 19.4,-19.4 19.4,19.4 -19.4,19.4 -19.4,-19.4
3D body: height 4.2, standoff 0, extent -18,-18 18,18

## SQFP50P4200X4200-304L [mm] "Shrink QFP, 304-Leads, Body 40x40mm, Pitch 0.5mm, IPC High Density"
height 4.2
pads (304):
  oval 1.55x0.25 smd: 1(-20.525,18.75) 2(-20.525,18.25) 3(-20.525,17.75) 4(-20.525,17.25) 5(-20.525,16.75) 6(-20.525,16.25) 7(-20.525,15.75) 8(-20.525,15.25) 9(-20.525,14.75) 10(-20.525,14.25) 11(-20.525,13.75) 12(-20.525,13.25) 13(-20.525,12.75) 14(-20.525,12.25) 15(-20.525,11.75) 16(-20.525,11.25) 17(-20.525,10.75) 18(-20.525,10.25) 19(-20.525,9.75) 20(-20.525,9.25) 21(-20.525,8.75) 22(-20.525,8.25) 23(-20.525,7.75) 24(-20.525,7.25) 25(-20.525,6.75) 26(-20.525,6.25) 27(-20.525,5.75) 28(-20.525,5.25) 29(-20.525,4.75) 30(-20.525,4.25) 31(-20.525,3.75) 32(-20.525,3.25) 33(-20.525,2.75) 34(-20.525,2.25) 35(-20.525,1.75) 36(-20.525,1.25) 37(-20.525,0.75) 38(-20.525,0.25) 39(-20.525,-0.25) 40(-20.525,-0.75) 41(-20.525,-1.25) 42(-20.525,-1.75) 43(-20.525,-2.25) 44(-20.525,-2.75) 45(-20.525,-3.25) 46(-20.525,-3.75) 47(-20.525,-4.25) 48(-20.525,-4.75) 49(-20.525,-5.25) 50(-20.525,-5.75) 51(-20.525,-6.25) 52(-20.525,-6.75) 53(-20.525,-7.25) 54(-20.525,-7.75) 55(-20.525,-8.25) 56(-20.525,-8.75) 57(-20.525,-9.25) 58(-20.525,-9.75) 59(-20.525,-10.25) 60(-20.525,-10.75) 61(-20.525,-11.25) 62(-20.525,-11.75) 63(-20.525,-12.25) 64(-20.525,-12.75) 65(-20.525,-13.25) 66(-20.525,-13.75) 67(-20.525,-14.25) 68(-20.525,-14.75) 69(-20.525,-15.25) 70(-20.525,-15.75) 71(-20.525,-16.25) 72(-20.525,-16.75) 73(-20.525,-17.25) 74(-20.525,-17.75) 75(-20.525,-18.25) 76(-20.525,-18.75) 153(20.525,-18.75) 154(20.525,-18.25) 155(20.525,-17.75) 156(20.525,-17.25) 157(20.525,-16.75) 158(20.525,-16.25) 159(20.525,-15.75) 160(20.525,-15.25) 161(20.525,-14.75) 162(20.525,-14.25) 163(20.525,-13.75) 164(20.525,-13.25) 165(20.525,-12.75) 166(20.525,-12.25) 167(20.525,-11.75) 168(20.525,-11.25) 169(20.525,-10.75) 170(20.525,-10.25) 171(20.525,-9.75) 172(20.525,-9.25) 173(20.525,-8.75) 174(20.525,-8.25) 175(20.525,-7.75) 176(20.525,-7.25) 177(20.525,-6.75) 178(20.525,-6.25) 179(20.525,-5.75) 180(20.525,-5.25) 181(20.525,-4.75) 182(20.525,-4.25) 183(20.525,-3.75) 184(20.525,-3.25) 185(20.525,-2.75) 186(20.525,-2.25) 187(20.525,-1.75) 188(20.525,-1.25) 189(20.525,-0.75) 190(20.525,-0.25) 191(20.525,0.25) 192(20.525,0.75) 193(20.525,1.25) 194(20.525,1.75) 195(20.525,2.25) 196(20.525,2.75) 197(20.525,3.25) 198(20.525,3.75) 199(20.525,4.25) 200(20.525,4.75) 201(20.525,5.25) 202(20.525,5.75) 203(20.525,6.25) 204(20.525,6.75) 205(20.525,7.25) 206(20.525,7.75) 207(20.525,8.25) 208(20.525,8.75) 209(20.525,9.25) 210(20.525,9.75) 211(20.525,10.25) 212(20.525,10.75) 213(20.525,11.25) 214(20.525,11.75) 215(20.525,12.25) 216(20.525,12.75) 217(20.525,13.25) 218(20.525,13.75) 219(20.525,14.25) 220(20.525,14.75) 221(20.525,15.25) 222(20.525,15.75) 223(20.525,16.25) 224(20.525,16.75) 225(20.525,17.25) 226(20.525,17.75) 227(20.525,18.25) 228(20.525,18.75)
  oval 0.25x1.55 smd: 77(-18.75,-20.525) 78(-18.25,-20.525) 79(-17.75,-20.525) 80(-17.25,-20.525) 81(-16.75,-20.525) 82(-16.25,-20.525) 83(-15.75,-20.525) 84(-15.25,-20.525) 85(-14.75,-20.525) 86(-14.25,-20.525) 87(-13.75,-20.525) 88(-13.25,-20.525) 89(-12.75,-20.525) 90(-12.25,-20.525) 91(-11.75,-20.525) 92(-11.25,-20.525) 93(-10.75,-20.525) 94(-10.25,-20.525) 95(-9.75,-20.525) 96(-9.25,-20.525) 97(-8.75,-20.525) 98(-8.25,-20.525) 99(-7.75,-20.525) 100(-7.25,-20.525) 101(-6.75,-20.525) 102(-6.25,-20.525) 103(-5.75,-20.525) 104(-5.25,-20.525) 105(-4.75,-20.525) 106(-4.25,-20.525) 107(-3.75,-20.525) 108(-3.25,-20.525) 109(-2.75,-20.525) 110(-2.25,-20.525) 111(-1.75,-20.525) 112(-1.25,-20.525) 113(-0.75,-20.525) 114(-0.25,-20.525) 115(0.25,-20.525) 116(0.75,-20.525) 117(1.25,-20.525) 118(1.75,-20.525) 119(2.25,-20.525) 120(2.75,-20.525) 121(3.25,-20.525) 122(3.75,-20.525) 123(4.25,-20.525) 124(4.75,-20.525) 125(5.25,-20.525) 126(5.75,-20.525) 127(6.25,-20.525) 128(6.75,-20.525) 129(7.25,-20.525) 130(7.75,-20.525) 131(8.25,-20.525) 132(8.75,-20.525) 133(9.25,-20.525) 134(9.75,-20.525) 135(10.25,-20.525) 136(10.75,-20.525) 137(11.25,-20.525) 138(11.75,-20.525) 139(12.25,-20.525) 140(12.75,-20.525) 141(13.25,-20.525) 142(13.75,-20.525) 143(14.25,-20.525) 144(14.75,-20.525) 145(15.25,-20.525) 146(15.75,-20.525) 147(16.25,-20.525) 148(16.75,-20.525) 149(17.25,-20.525) 150(17.75,-20.525) 151(18.25,-20.525) 152(18.75,-20.525) 229(18.75,20.525) 230(18.25,20.525) 231(17.75,20.525) 232(17.25,20.525) 233(16.75,20.525) 234(16.25,20.525) 235(15.75,20.525) 236(15.25,20.525) 237(14.75,20.525) 238(14.25,20.525) 239(13.75,20.525) 240(13.25,20.525) 241(12.75,20.525) 242(12.25,20.525) 243(11.75,20.525) 244(11.25,20.525) 245(10.75,20.525) 246(10.25,20.525) 247(9.75,20.525) 248(9.25,20.525) 249(8.75,20.525) 250(8.25,20.525) 251(7.75,20.525) 252(7.25,20.525) 253(6.75,20.525) 254(6.25,20.525) 255(5.75,20.525) 256(5.25,20.525) 257(4.75,20.525) 258(4.25,20.525) 259(3.75,20.525) 260(3.25,20.525) 261(2.75,20.525) 262(2.25,20.525) 263(1.75,20.525) 264(1.25,20.525) 265(0.75,20.525) 266(0.25,20.525) 267(-0.25,20.525) 268(-0.75,20.525) 269(-1.25,20.525) 270(-1.75,20.525) 271(-2.25,20.525) 272(-2.75,20.525) 273(-3.25,20.525) 274(-3.75,20.525) 275(-4.25,20.525) 276(-4.75,20.525) 277(-5.25,20.525) 278(-5.75,20.525) 279(-6.25,20.525) 280(-6.75,20.525) 281(-7.25,20.525) 282(-7.75,20.525) 283(-8.25,20.525) 284(-8.75,20.525) 285(-9.25,20.525) 286(-9.75,20.525) 287(-10.25,20.525) 288(-10.75,20.525) 289(-11.25,20.525) 290(-11.75,20.525) 291(-12.25,20.525) 292(-12.75,20.525) 293(-13.25,20.525) 294(-13.75,20.525) 295(-14.25,20.525) 296(-14.75,20.525) 297(-15.25,20.525) 298(-15.75,20.525) 299(-16.25,20.525) 300(-16.75,20.525) 301(-17.25,20.525) 302(-17.75,20.525) 303(-18.25,20.525) 304(-18.75,20.525)
Top Overlay:
  circle w0.6: c-18.35,18.35 r0.3
  circle w0.25: c-20.525,19.425 r0.125
  lines w0.2: -19.35,-19.35 19.35,-19.35 19.35,19.35 -19.35,19.35 -19.35,-19.35
Mechanical 13:
  circle w0.1: c-19.1,19.1 r0.5
  lines w0.1: -20,-20 20,-20 20,20 -20,20 -20,-20
Mechanical 15:
  lines w0.1: -0.5,0 0.5,0 ; 0,-0.5 0,0.5 ; -21.4,-21.4 21.4,-21.4 21.4,21.4 -21.4,21.4 -21.4,-21.4
3D body: height 4.2, standoff 0, extent -20,-20 20,20

## SQFP50P4200X4200-312L [mm] "Shrink QFP, 312-Leads, Body 40x40mm, Pitch 0.5mm, IPC High Density"
height 4.2
pads (312):
  oval 1.55x0.25 smd: 1(-20.525,19.25) 2(-20.525,18.75) 3(-20.525,18.25) 4(-20.525,17.75) 5(-20.525,17.25) 6(-20.525,16.75) 7(-20.525,16.25) 8(-20.525,15.75) 9(-20.525,15.25) 10(-20.525,14.75) 11(-20.525,14.25) 12(-20.525,13.75) 13(-20.525,13.25) 14(-20.525,12.75) 15(-20.525,12.25) 16(-20.525,11.75) 17(-20.525,11.25) 18(-20.525,10.75) 19(-20.525,10.25) 20(-20.525,9.75) 21(-20.525,9.25) 22(-20.525,8.75) 23(-20.525,8.25) 24(-20.525,7.75) 25(-20.525,7.25) 26(-20.525,6.75) 27(-20.525,6.25) 28(-20.525,5.75) 29(-20.525,5.25) 30(-20.525,4.75) 31(-20.525,4.25) 32(-20.525,3.75) 33(-20.525,3.25) 34(-20.525,2.75) 35(-20.525,2.25) 36(-20.525,1.75) 37(-20.525,1.25) 38(-20.525,0.75) 39(-20.525,0.25) 40(-20.525,-0.25) 41(-20.525,-0.75) 42(-20.525,-1.25) 43(-20.525,-1.75) 44(-20.525,-2.25) 45(-20.525,-2.75) 46(-20.525,-3.25) 47(-20.525,-3.75) 48(-20.525,-4.25) 49(-20.525,-4.75) 50(-20.525,-5.25) 51(-20.525,-5.75) 52(-20.525,-6.25) 53(-20.525,-6.75) 54(-20.525,-7.25) 55(-20.525,-7.75) 56(-20.525,-8.25) 57(-20.525,-8.75) 58(-20.525,-9.25) 59(-20.525,-9.75) 60(-20.525,-10.25) 61(-20.525,-10.75) 62(-20.525,-11.25) 63(-20.525,-11.75) 64(-20.525,-12.25) 65(-20.525,-12.75) 66(-20.525,-13.25) 67(-20.525,-13.75) 68(-20.525,-14.25) 69(-20.525,-14.75) 70(-20.525,-15.25) 71(-20.525,-15.75) 72(-20.525,-16.25) 73(-20.525,-16.75) 74(-20.525,-17.25) 75(-20.525,-17.75) 76(-20.525,-18.25) 77(-20.525,-18.75) 78(-20.525,-19.25) 157(20.525,-19.25) 158(20.525,-18.75) 159(20.525,-18.25) 160(20.525,-17.75) 161(20.525,-17.25) 162(20.525,-16.75) 163(20.525,-16.25) 164(20.525,-15.75) 165(20.525,-15.25) 166(20.525,-14.75) 167(20.525,-14.25) 168(20.525,-13.75) 169(20.525,-13.25) 170(20.525,-12.75) 171(20.525,-12.25) 172(20.525,-11.75) 173(20.525,-11.25) 174(20.525,-10.75) 175(20.525,-10.25) 176(20.525,-9.75) 177(20.525,-9.25) 178(20.525,-8.75) 179(20.525,-8.25) 180(20.525,-7.75) 181(20.525,-7.25) 182(20.525,-6.75) 183(20.525,-6.25) 184(20.525,-5.75) 185(20.525,-5.25) 186(20.525,-4.75) 187(20.525,-4.25) 188(20.525,-3.75) 189(20.525,-3.25) 190(20.525,-2.75) 191(20.525,-2.25) 192(20.525,-1.75) 193(20.525,-1.25) 194(20.525,-0.75) 195(20.525,-0.25) 196(20.525,0.25) 197(20.525,0.75) 198(20.525,1.25) 199(20.525,1.75) 200(20.525,2.25) 201(20.525,2.75) 202(20.525,3.25) 203(20.525,3.75) 204(20.525,4.25) 205(20.525,4.75) 206(20.525,5.25) 207(20.525,5.75) 208(20.525,6.25) 209(20.525,6.75) 210(20.525,7.25) 211(20.525,7.75) 212(20.525,8.25) 213(20.525,8.75) 214(20.525,9.25) 215(20.525,9.75) 216(20.525,10.25) 217(20.525,10.75) 218(20.525,11.25) 219(20.525,11.75) 220(20.525,12.25) 221(20.525,12.75) 222(20.525,13.25) 223(20.525,13.75) 224(20.525,14.25) 225(20.525,14.75) 226(20.525,15.25) 227(20.525,15.75) 228(20.525,16.25) 229(20.525,16.75) 230(20.525,17.25) 231(20.525,17.75) 232(20.525,18.25) 233(20.525,18.75) 234(20.525,19.25)
  oval 0.25x1.55 smd: 79(-19.25,-20.525) 80(-18.75,-20.525) 81(-18.25,-20.525) 82(-17.75,-20.525) 83(-17.25,-20.525) 84(-16.75,-20.525) 85(-16.25,-20.525) 86(-15.75,-20.525) 87(-15.25,-20.525) 88(-14.75,-20.525) 89(-14.25,-20.525) 90(-13.75,-20.525) 91(-13.25,-20.525) 92(-12.75,-20.525) 93(-12.25,-20.525) 94(-11.75,-20.525) 95(-11.25,-20.525) 96(-10.75,-20.525) 97(-10.25,-20.525) 98(-9.75,-20.525) 99(-9.25,-20.525) 100(-8.75,-20.525) 101(-8.25,-20.525) 102(-7.75,-20.525) 103(-7.25,-20.525) 104(-6.75,-20.525) 105(-6.25,-20.525) 106(-5.75,-20.525) 107(-5.25,-20.525) 108(-4.75,-20.525) 109(-4.25,-20.525) 110(-3.75,-20.525) 111(-3.25,-20.525) 112(-2.75,-20.525) 113(-2.25,-20.525) 114(-1.75,-20.525) 115(-1.25,-20.525) 116(-0.75,-20.525) 117(-0.25,-20.525) 118(0.25,-20.525) 119(0.75,-20.525) 120(1.25,-20.525) 121(1.75,-20.525) 122(2.25,-20.525) 123(2.75,-20.525) 124(3.25,-20.525) 125(3.75,-20.525) 126(4.25,-20.525) 127(4.75,-20.525) 128(5.25,-20.525) 129(5.75,-20.525) 130(6.25,-20.525) 131(6.75,-20.525) 132(7.25,-20.525) 133(7.75,-20.525) 134(8.25,-20.525) 135(8.75,-20.525) 136(9.25,-20.525) 137(9.75,-20.525) 138(10.25,-20.525) 139(10.75,-20.525) 140(11.25,-20.525) 141(11.75,-20.525) 142(12.25,-20.525) 143(12.75,-20.525) 144(13.25,-20.525) 145(13.75,-20.525) 146(14.25,-20.525) 147(14.75,-20.525) 148(15.25,-20.525) 149(15.75,-20.525) 150(16.25,-20.525) 151(16.75,-20.525) 152(17.25,-20.525) 153(17.75,-20.525) 154(18.25,-20.525) 155(18.75,-20.525) 156(19.25,-20.525) 235(19.25,20.525) 236(18.75,20.525) 237(18.25,20.525) 238(17.75,20.525) 239(17.25,20.525) 240(16.75,20.525) 241(16.25,20.525) 242(15.75,20.525) 243(15.25,20.525) 244(14.75,20.525) 245(14.25,20.525) 246(13.75,20.525) 247(13.25,20.525) 248(12.75,20.525) 249(12.25,20.525) 250(11.75,20.525) 251(11.25,20.525) 252(10.75,20.525) 253(10.25,20.525) 254(9.75,20.525) 255(9.25,20.525) 256(8.75,20.525) 257(8.25,20.525) 258(7.75,20.525) 259(7.25,20.525) 260(6.75,20.525) 261(6.25,20.525) 262(5.75,20.525) 263(5.25,20.525) 264(4.75,20.525) 265(4.25,20.525) 266(3.75,20.525) 267(3.25,20.525) 268(2.75,20.525) 269(2.25,20.525) 270(1.75,20.525) 271(1.25,20.525) 272(0.75,20.525) 273(0.25,20.525) 274(-0.25,20.525) 275(-0.75,20.525) 276(-1.25,20.525) 277(-1.75,20.525) 278(-2.25,20.525) 279(-2.75,20.525) 280(-3.25,20.525) 281(-3.75,20.525) 282(-4.25,20.525) 283(-4.75,20.525) 284(-5.25,20.525) 285(-5.75,20.525) 286(-6.25,20.525) 287(-6.75,20.525) 288(-7.25,20.525) 289(-7.75,20.525) 290(-8.25,20.525) 291(-8.75,20.525) 292(-9.25,20.525) 293(-9.75,20.525) 294(-10.25,20.525) 295(-10.75,20.525) 296(-11.25,20.525) 297(-11.75,20.525) 298(-12.25,20.525) 299(-12.75,20.525) 300(-13.25,20.525) 301(-13.75,20.525) 302(-14.25,20.525) 303(-14.75,20.525) 304(-15.25,20.525) 305(-15.75,20.525) 306(-16.25,20.525) 307(-16.75,20.525) 308(-17.25,20.525) 309(-17.75,20.525) 310(-18.25,20.525) 311(-18.75,20.525) 312(-19.25,20.525)
Top Overlay:
  circle w0.25: c-20.525,19.925 r0.125
  circle w0.6: c-18.35,18.35 r0.3
  lines w0.2: -19.35,-19.35 -19.35,19.35 19.35,19.35 19.35,-19.35 -19.35,-19.35
Mechanical 13:
  circle w0.1: c-19.1,19.1 r0.5
  lines w0.1: -20,-20 -20,20 20,20 20,-20 -20,-20
Mechanical 15:
  lines w0.1: -0.5,0 0.5,0 ; 0,-0.5 0,0.5 ; -21.4,-21.4 -21.4,21.4 21.4,21.4 21.4,-21.4 -21.4,-21.4
3D body: height 4.2, standoff 0, extent -20,-20 20,20

## SQFP50P4600X4600-336L [mm] "Shrink QFP, 336-Leads, Body 44x44mm, Pitch 0.5mm, IPC High Density"
height 4.2
pads (336):
  oval 1.55x0.25 smd: 1(-22.525,20.75) 2(-22.525,20.25) 3(-22.525,19.75) 4(-22.525,19.25) 5(-22.525,18.75) 6(-22.525,18.25) 7(-22.525,17.75) 8(-22.525,17.25) 9(-22.525,16.75) 10(-22.525,16.25) 11(-22.525,15.75) 12(-22.525,15.25) 13(-22.525,14.75) 14(-22.525,14.25) 15(-22.525,13.75) 16(-22.525,13.25) 17(-22.525,12.75) 18(-22.525,12.25) 19(-22.525,11.75) 20(-22.525,11.25) 21(-22.525,10.75) 22(-22.525,10.25) 23(-22.525,9.75) 24(-22.525,9.25) 25(-22.525,8.75) 26(-22.525,8.25) 27(-22.525,7.75) 28(-22.525,7.25) 29(-22.525,6.75) 30(-22.525,6.25) 31(-22.525,5.75) 32(-22.525,5.25) 33(-22.525,4.75) 34(-22.525,4.25) 35(-22.525,3.75) 36(-22.525,3.25) 37(-22.525,2.75) 38(-22.525,2.25) 39(-22.525,1.75) 40(-22.525,1.25) 41(-22.525,0.75) 42(-22.525,0.25) 43(-22.525,-0.25) 44(-22.525,-0.75) 45(-22.525,-1.25) 46(-22.525,-1.75) 47(-22.525,-2.25) 48(-22.525,-2.75) 49(-22.525,-3.25) 50(-22.525,-3.75) 51(-22.525,-4.25) 52(-22.525,-4.75) 53(-22.525,-5.25) 54(-22.525,-5.75) 55(-22.525,-6.25) 56(-22.525,-6.75) 57(-22.525,-7.25) 58(-22.525,-7.75) 59(-22.525,-8.25) 60(-22.525,-8.75) 61(-22.525,-9.25) 62(-22.525,-9.75) 63(-22.525,-10.25) 64(-22.525,-10.75) 65(-22.525,-11.25) 66(-22.525,-11.75) 67(-22.525,-12.25) 68(-22.525,-12.75) 69(-22.525,-13.25) 70(-22.525,-13.75) 71(-22.525,-14.25) 72(-22.525,-14.75) 73(-22.525,-15.25) 74(-22.525,-15.75) 75(-22.525,-16.25) 76(-22.525,-16.75) 77(-22.525,-17.25) 78(-22.525,-17.75) 79(-22.525,-18.25) 80(-22.525,-18.75) 81(-22.525,-19.25) 82(-22.525,-19.75) 83(-22.525,-20.25) 84(-22.525,-20.75) 169(22.525,-20.75) 170(22.525,-20.25) 171(22.525,-19.75) 172(22.525,-19.25) 173(22.525,-18.75) 174(22.525,-18.25) 175(22.525,-17.75) 176(22.525,-17.25) 177(22.525,-16.75) 178(22.525,-16.25) 179(22.525,-15.75) 180(22.525,-15.25) 181(22.525,-14.75) 182(22.525,-14.25) 183(22.525,-13.75) 184(22.525,-13.25) 185(22.525,-12.75) 186(22.525,-12.25) 187(22.525,-11.75) 188(22.525,-11.25) 189(22.525,-10.75) 190(22.525,-10.25) 191(22.525,-9.75) 192(22.525,-9.25) 193(22.525,-8.75) 194(22.525,-8.25) 195(22.525,-7.75) 196(22.525,-7.25) 197(22.525,-6.75) 198(22.525,-6.25) 199(22.525,-5.75) 200(22.525,-5.25) 201(22.525,-4.75) 202(22.525,-4.25) 203(22.525,-3.75) 204(22.525,-3.25) 205(22.525,-2.75) 206(22.525,-2.25) 207(22.525,-1.75) 208(22.525,-1.25) 209(22.525,-0.75) 210(22.525,-0.25) 211(22.525,0.25) 212(22.525,0.75) 213(22.525,1.25) 214(22.525,1.75) 215(22.525,2.25) 216(22.525,2.75) 217(22.525,3.25) 218(22.525,3.75) 219(22.525,4.25) 220(22.525,4.75) 221(22.525,5.25) 222(22.525,5.75) 223(22.525,6.25) 224(22.525,6.75) 225(22.525,7.25) 226(22.525,7.75) 227(22.525,8.25) 228(22.525,8.75) 229(22.525,9.25) 230(22.525,9.75) 231(22.525,10.25) 232(22.525,10.75) 233(22.525,11.25) 234(22.525,11.75) 235(22.525,12.25) 236(22.525,12.75) 237(22.525,13.25) 238(22.525,13.75) 239(22.525,14.25) 240(22.525,14.75) 241(22.525,15.25) 242(22.525,15.75) 243(22.525,16.25) 244(22.525,16.75) 245(22.525,17.25) 246(22.525,17.75) 247(22.525,18.25) 248(22.525,18.75) 249(22.525,19.25) 250(22.525,19.75) 251(22.525,20.25) 252(22.525,20.75)
  oval 0.25x1.55 smd: 85(-20.75,-22.525) 86(-20.25,-22.525) 87(-19.75,-22.525) 88(-19.25,-22.525) 89(-18.75,-22.525) 90(-18.25,-22.525) 91(-17.75,-22.525) 92(-17.25,-22.525) 93(-16.75,-22.525) 94(-16.25,-22.525) 95(-15.75,-22.525) 96(-15.25,-22.525) 97(-14.75,-22.525) 98(-14.25,-22.525) 99(-13.75,-22.525) 100(-13.25,-22.525) 101(-12.75,-22.525) 102(-12.25,-22.525) 103(-11.75,-22.525) 104(-11.25,-22.525) 105(-10.75,-22.525) 106(-10.25,-22.525) 107(-9.75,-22.525) 108(-9.25,-22.525) 109(-8.75,-22.525) 110(-8.25,-22.525) 111(-7.75,-22.525) 112(-7.25,-22.525) 113(-6.75,-22.525) 114(-6.25,-22.525) 115(-5.75,-22.525) 116(-5.25,-22.525) 117(-4.75,-22.525) 118(-4.25,-22.525) 119(-3.75,-22.525) 120(-3.25,-22.525) 121(-2.75,-22.525) 122(-2.25,-22.525) 123(-1.75,-22.525) 124(-1.25,-22.525) 125(-0.75,-22.525) 126(-0.25,-22.525) 127(0.25,-22.525) 128(0.75,-22.525) 129(1.25,-22.525) 130(1.75,-22.525) 131(2.25,-22.525) 132(2.75,-22.525) 133(3.25,-22.525) 134(3.75,-22.525) 135(4.25,-22.525) 136(4.75,-22.525) 137(5.25,-22.525) 138(5.75,-22.525) 139(6.25,-22.525) 140(6.75,-22.525) 141(7.25,-22.525) 142(7.75,-22.525) 143(8.25,-22.525) 144(8.75,-22.525) 145(9.25,-22.525) 146(9.75,-22.525) 147(10.25,-22.525) 148(10.75,-22.525) 149(11.25,-22.525) 150(11.75,-22.525) 151(12.25,-22.525) 152(12.75,-22.525) 153(13.25,-22.525) 154(13.75,-22.525) 155(14.25,-22.525) 156(14.75,-22.525) 157(15.25,-22.525) 158(15.75,-22.525) 159(16.25,-22.525) 160(16.75,-22.525) 161(17.25,-22.525) 162(17.75,-22.525) 163(18.25,-22.525) 164(18.75,-22.525) 165(19.25,-22.525) 166(19.75,-22.525) 167(20.25,-22.525) 168(20.75,-22.525) 253(20.75,22.525) 254(20.25,22.525) 255(19.75,22.525) 256(19.25,22.525) 257(18.75,22.525) 258(18.25,22.525) 259(17.75,22.525) 260(17.25,22.525) 261(16.75,22.525) 262(16.25,22.525) 263(15.75,22.525) 264(15.25,22.525) 265(14.75,22.525) 266(14.25,22.525) 267(13.75,22.525) 268(13.25,22.525) 269(12.75,22.525) 270(12.25,22.525) 271(11.75,22.525) 272(11.25,22.525) 273(10.75,22.525) 274(10.25,22.525) 275(9.75,22.525) 276(9.25,22.525) 277(8.75,22.525) 278(8.25,22.525) 279(7.75,22.525) 280(7.25,22.525) 281(6.75,22.525) 282(6.25,22.525) 283(5.75,22.525) 284(5.25,22.525) 285(4.75,22.525) 286(4.25,22.525) 287(3.75,22.525) 288(3.25,22.525) 289(2.75,22.525) 290(2.25,22.525) 291(1.75,22.525) 292(1.25,22.525) 293(0.75,22.525) 294(0.25,22.525) 295(-0.25,22.525) 296(-0.75,22.525) 297(-1.25,22.525) 298(-1.75,22.525) 299(-2.25,22.525) 300(-2.75,22.525) 301(-3.25,22.525) 302(-3.75,22.525) 303(-4.25,22.525) 304(-4.75,22.525) 305(-5.25,22.525) 306(-5.75,22.525) 307(-6.25,22.525) 308(-6.75,22.525) 309(-7.25,22.525) 310(-7.75,22.525) 311(-8.25,22.525) 312(-8.75,22.525) 313(-9.25,22.525) 314(-9.75,22.525) 315(-10.25,22.525) 316(-10.75,22.525) 317(-11.25,22.525) 318(-11.75,22.525) 319(-12.25,22.525) 320(-12.75,22.525) 321(-13.25,22.525) 322(-13.75,22.525) 323(-14.25,22.525) 324(-14.75,22.525) 325(-15.25,22.525) 326(-15.75,22.525) 327(-16.25,22.525) 328(-16.75,22.525) 329(-17.25,22.525) 330(-17.75,22.525) 331(-18.25,22.525) 332(-18.75,22.525) 333(-19.25,22.525) 334(-19.75,22.525) 335(-20.25,22.525) 336(-20.75,22.525)
Top Overlay:
  circle w0.6: c-20.35,20.35 r0.3
  circle w0.25: c-22.525,21.425 r0.125
  lines w0.2: -21.35,-21.35 21.35,-21.35 21.35,21.35 -21.35,21.35 -21.35,-21.35
Mechanical 13:
  circle w0.1: c-21.1,21.1 r0.5
  lines w0.1: -22,-22 22,-22 22,22 -22,22 -22,-22
Mechanical 15:
  lines w0.1: -0.5,0 0.5,0 ; 0,-0.5 0,0.5 ; -23.4,-23.4 23.4,-23.4 23.4,23.4 -23.4,23.4 -23.4,-23.4
3D body: height 4.2, standoff 0, extent -22,-22 22,22